# Altium schematic symbol library Inductor.SchLib: 3 symbols
Pins are listed as number, name and electrical type; pins without a type are passive.

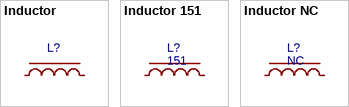
[diagram p0: symbols Inductor to Inductor NC]

## Inductor
designator L?
电感
footprint L0402
footprint L0603
footprint L0805
footprint L_AXIAL-0.4
footprint L_AXIAL-0.5
footprint L_AXIAL-0.6
pins: 1, 2

## Inductor 151
designator L?, comment 151
电感
footprint L0402
footprint L0603
footprint L0805
footprint L_AXIAL-0.4
footprint L_AXIAL-0.5
footprint L_AXIAL-0.6
pins: 1, 2

## Inductor NC
designator L?, comment NC
电感（不连接）
footprint L0402
footprint L0603
footprint L0805
footprint L_AXIAL-0.4
footprint L_AXIAL-0.5
footprint L_AXIAL-0.6
pins: 1, 2